# Altium schematic symbol library Components.SchLib: 11 symbols
Pins are listed as number, name and electrical type; pins without a type are passive.

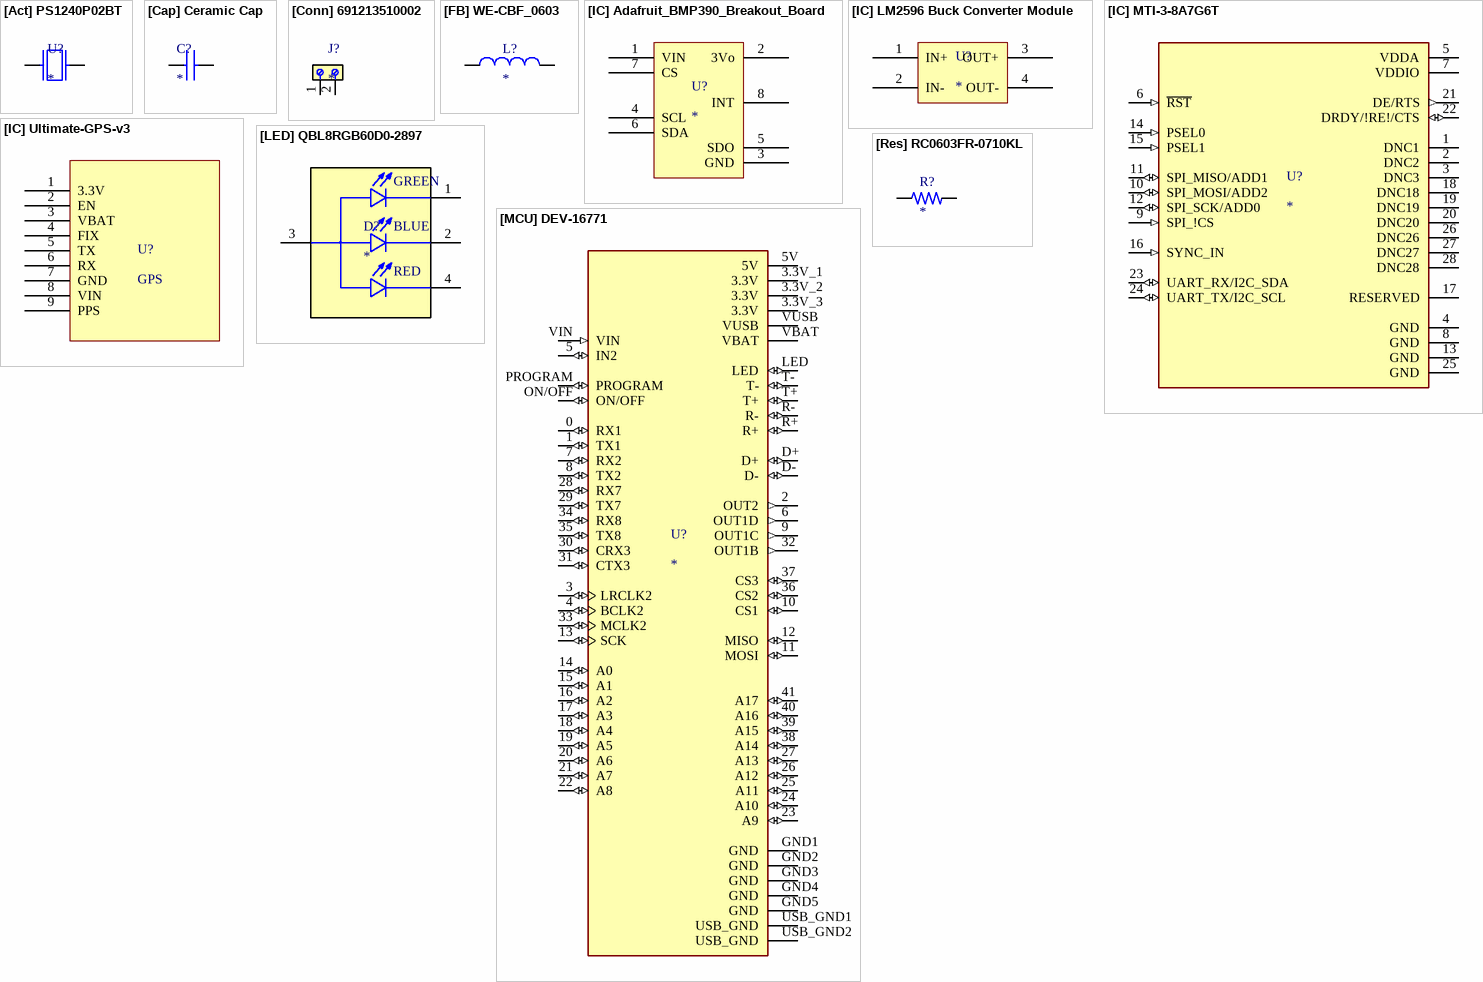
[diagram p0: symbols [Act] PS1240P02BT to [Res] RC0603FR-0710KL]

## [Act] PS1240P02BT
designator U?
Buzzers Transducer, Externally Driven Piezo 3V 4kHz 60dB @ 3V, 10cm Through Hole PC Pins; MP: PS1240P02BT; MF: TDK; Availability: Unavailable; Package: 2020 TDK; Value: *; Price: None; SnapEDA_Link: https://www.snapeda.com/parts/PS1240P02BT/TDK/view-part/53420/?ref=snap
footprint [ACT] XDCR_PS1240P02BT - duplicate
pins: 1, 2

## [Cap] Ceramic Cap
designator C?
Ceramic cap; MP: EEUFM1H101; MF: Panasonic; Package: RADIAL-2 Panasonic; Check_prices: https://www.snapeda.com/parts/EEUFM1H101/Panasonic/view-part/1510333/?ref=eda; Value: *; Price: None; Availability: In Stock; SnapEDA_Link: https://www.snapeda.com/parts/EEUFM1H101/Panasonic/view-part/1510333/?ref=snap
footprint [CAP] CAPC220145_88N_KEM
footprint [CAP] CAPC_TH_100MIL (through hole cap with 100mil clearance)
pins: 1 P, 2 N

## [Conn] 691213510002
designator J?
2 Position Wire to Board Terminal Block Horizontal with Board 0.200 (5.08mm) Through Hole; MF: WÃ¼rth Elektronik; MP: 691213510002; SnapEDA_Link: https://www.snapeda.com/parts/691213510002/W%25C3%25BCrth+Elektronik+Midcom/view-part/?ref=snap; Package: None; Value: *; Check_prices: https://www.snapeda.com/parts/691213510002/W%25C3%25BCrth+Elektronik+Midcom/view-part/?ref=eda
footprint [CONN] 5MM_2PORT_SCREW (5.08 mm pitch 2 port screw terminal / 691213510002)
pins: 1, 2

## [FB] WE-CBF_0603
designator L?
Size 0603; Z @ 100 MHz = 600 â„¦; Zmax = 800 â„¦ @ 200 MHz; IR = 1000 mA; RDC = 0.2 â„¦; MF: Wurth Elektronik; MP: 742792651; SnapEDA_Link: https://www.snapeda.com/parts/742792651/Wurth+Electronics/view-part/?ref=snap; Package: 0603 WÃ¼rth Elektronik; Value: *; Check_prices: https://www.snapeda.com/parts/742792651/Wurth+Electronics/view-part/?ref=eda
footprint [FB] WE-CBF_0603_W2.6
pins: 1, 2

## [IC] Adafruit_BMP390_Breakout_Board
designator U?
Bosch BMP390's breakout board by Adafruit
footprint [IC] ADAFRUIT_BMP390
pins: 1 VIN, 2 3Vo, 3 GND, 4 SCL, 5 SDO, 6 SDA, 7 CS, 8 INT

## [IC] LM2596 Buck Converter Module
designator U?
footprint [IC] LM2596 Module - duplicate
pins: 1 IN+, 2 IN-, 3 OUT+, 4 OUT-

## [IC] MTI-3-8A7G6T
designator U?
Accelerometer, Gyroscope, Magnetometer, 9 Axis Sensor IÂ²C, SPI Output; MF: XSens Technologies; MP: MTI-3-8A7G6T; Price: None; Check_prices: https://www.snapeda.com/parts/MTI-3-8A7G6T/XSens%20Technologies%20BV/view-part/1464840/?ref=eda; Value: *; SnapEDA_Link: https://www.snapeda.com/parts/MTI-3-8A7G6T/XSens%20Technologies%20BV/view-part/1464840/?ref=snap; Availability: Bad; Package: SMD-28 Xsens Technologies
footprint [IC] MODULE_MTI-3-8A7G6T (IMU)
footprint [IC] PLCC28AT (Used for MTI IMU)
pins: 1 DNC1, 2 DNC2, 3 DNC3, 4 GND (power), 5 VDDA (power), 6 ~{RST} (in), 7 VDDIO (power), 8 GND (power), 9 SPI_!CS (in), 10 SPI_MOSI/ADD2 (io), 11 SPI_MISO/ADD1 (io), 12 SPI_SCK/ADD0 (io), 13 GND (power), 14 PSEL0 (in), 15 PSEL1 (in), 16 SYNC_IN (in), 17 RESERVED, 18 DNC18, 19 DNC19, 20 DNC20, 21 DE/RTS (out), 22 DRDY/!RE!/CTS (io), 23 UART_RX/I2C_SDA (io), 24 UART_TX/I2C_SCL (io), 25 GND (power), 26 DNC26, 27 DNC27, 28 DNC28

## [IC] Ultimate-GPS-v3
designator U?, comment GPS
GPS breakout for MT3339
footprint [IC] Ultimate-GPS-v3
pins: 1 3.3V, 2 EN, 3 VBAT, 4 FIX, 5 TX, 6 RX, 7 GND, 8 VIN, 9 PPS

## [LED] QBL8RGB60D0-2897
designator D?
Red, Green, Blue (RGB) 624nm Red, 525nm Green, 470nm Blue LED Indication - Discrete 2V Red, 3.2V Green, 3.2V Blue Radial; MF: QT Brightek (QTB); MP: QBL8RGB60D0-2897; SnapEDA_Link: https://www.snapeda.com/parts/QBL8RGB60D0-2897/QT/view-part/?ref=snap; Package: Radial QT Brightek (QTB); Value: *; Check_prices: https://www.snapeda.com/parts/QBL8RGB60D0-2897/QT/view-part/?ref=eda
footprint [LED] LED_QBL8RGB60D0-2897
pins: 1 CATHODE_GREEN, 2 CATHODE_BLUE, 3 COMMON_ANODE, 4 CATHODE_RED
text: GREEN; BLUE; RED

## [MCU] DEV-16771
designator U?
RT1062 Teensy 4.1 series ARM® Cortex®-M7 MPU Embedded Evaluation Board; MF: SparkFun Electronics; MP: DEV-16771; SnapEDA_Link: https://www.snapeda.com/parts/DEV-16771/SparkFun+Electronics/view-part/?ref=snap; Package: None; Value: *; Check_prices: https://www.snapeda.com/parts/DEV-16771/SparkFun+Electronics/view-part/?ref=eda
footprint [MCU] MODULE_DEV-16771
pins: 0 RX1 (io), 1 TX1 (io), 2 OUT2 (out), 3 LRCLK2 (io), 3.3V_1 3.3V (power), 3.3V_2 3.3V (power), 3.3V_3 3.3V (power), 4 BCLK2 (io), 5 IN2 (io), 5V (power), 6 OUT1D (out), 7 RX2 (io), 8 TX2 (io), 9 OUT1C (out), 10 CS1 (io), 11 MOSI (io), 12 MISO (io), 13 SCK (io), 14 A0 (io), 15 A1 (io), 16 A2 (io), 17 A3 (io), 18 A4 (io), 19 A5 (io), 20 A6 (io), 21 A7 (io), 22 A8 (io), 23 A9 (io), 24 A10 (io), 25 A11 (io), 26 A12 (io), 27 A13 (io), 28 RX7 (io), 29 TX7 (io), 30 CRX3 (io), 31 CTX3 (io), 32 OUT1B (out), 33 MCLK2 (io), 34 RX8 (io), 35 TX8 (io), 36 CS2 (io), 37 CS3 (io), 38 A14 (io), 39 A15 (io), 40 A16 (io), 41 A17 (io), D+ (io), D- (io), GND1 GND (power), GND2 GND (power), GND3 GND (power), GND4 GND (power), GND5 GND (power), LED (io), ON/OFF (io), PROGRAM (io), R+ (io), R- (io), T+ (io), T- (io), USB_GND1 USB_GND (power), USB_GND2 USB_GND (power), VBAT, VIN (in), VUSB

## [Res] RC0603FR-0710KL
designator R?
10 kOhms Â±1% 0.1W, 1/10W Chip Resistor 0603 (1608 Metric) Moisture Resistant Thick Film; MF: Yageo; MP: RC0603FR-0710KL; SnapEDA_Link: https://www.snapeda.com/parts/RC0603FR-0710KL/Yageo/view-part/?ref=snap; Package: 0603 Yageo; Value: *; Check_prices: https://www.snapeda.com/parts/RC0603FR-0710KL/Yageo/view-part/?ref=eda
footprint [RES] RESC1607X60N
footprint [RES] 1/4W TH RES
pins: 1, 2